# EAGLE library part AMY-5M (library X893)
http://u-blox.com/en/gps-modules/pvt-modules/amy-5m.html
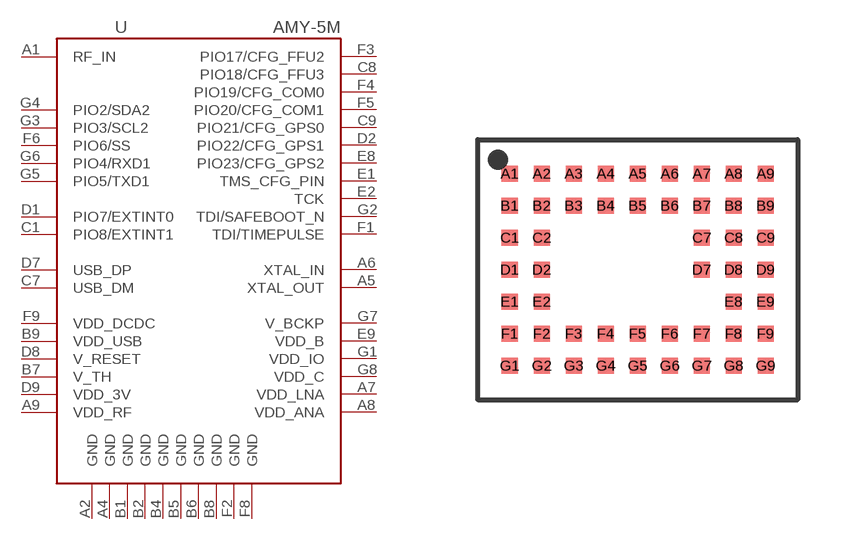
[diagram p27: symbol with the pads of AMY-5; footprint AMY-5]

Designator prefix U

## AMY-5M  [AMY-5]
A1  RF_IN  pas
A2  GND  sup
A3  NC  nc
A4  GND  sup
A5  XTAL_OUT  pas
A6  XTAL_IN  pas
A7  VDD_LNA  pas
A8  VDD_ANA  pas
A9  VDD_RF  pas
B1  GND  sup
B2  GND  sup
B3  RESERVED  pas
B4  GND  sup
B5  GND  sup
B6  GND  sup
B7  V_TH  pas
B8  GND  sup
B9  VDD_USB  pas
C1  PIO8/EXTINT1
C2  RESERVED  pas
C7  USB_DM
C8  PIO18/CFG_FFU3
C9  PIO21/CFG_GPS0
D1  PIO7/EXTINT0
D2  PIO22/CFG_GPS1  pas
D7  USB_DP
D8  V_RESET
D9  VDD_3V  pas
E1  TMS_CFG_PIN  pas
E2  TCK  pas
E8  PIO23/CFG_GPS2
E9  VDD_B  pas
F1  TDI/TIMEPULSE  out
F2  GND  sup
F3  PIO17/CFG_FFU2
F4  PIO19/CFG_COM0
F5  PIO20/CFG_COM1
F6  PIO6/SS
F7  RESERVED  pas
F8  GND  sup
F9  VDD_DCDC  pas
G1  VDD_IO  pas
G2  TDI/SAFEBOOT_N
G3  PIO3/SCL2
G4  PIO2/SDA2
G5  PIO5/TXD1
G6  PIO4/RXD1
G7  V_BCKP  pas
G8  VDD_C  pas
G9  NC  nc

## Footprint AMY-5 (pad centres in mm)
smd 0.4 x 0.4: A1 -3.2,2.4; A2 -2.4,2.4; A3 -1.6,2.4; A4 -0.8,2.4; A5 0,2.4; A6 0.8,2.4; A7 1.6,2.4; A8 2.4,2.4; A9 3.2,2.4; B1 -3.2,1.6; B2 -2.4,1.6; B3 -1.6,1.6; B4 -0.8,1.6; B5 0,1.6; B6 0.8,1.6; B7 1.6,1.6; B8 2.4,1.6; B9 3.2,1.6; C1 -3.2,0.8; C2 -2.4,0.8; C7 1.6,0.8; C8 2.4,0.8; C9 3.2,0.8; D1 -3.2,0; D2 -2.4,0; D7 1.6,0; D8 2.4,0; D9 3.2,0; E1 -3.2,-0.8; E2 -2.4,-0.8; E8 2.4,-0.8; E9 3.2,-0.8; F1 -3.2,-1.6; F2 -2.4,-1.6; F3 -1.6,-1.6; F4 -0.8,-1.6; F5 0,-1.6; F6 0.8,-1.6; F7 1.6,-1.6; F8 2.4,-1.6; F9 3.2,-1.6; G1 -3.2,-2.4; G2 -2.4,-2.4; G3 -1.6,-2.4; G4 -0.8,-2.4; G5 0,-2.4; G6 0.8,-2.4; G7 1.6,-2.4; G8 2.4,-2.4; G9 3.2,-2.4